# Altium footprint library Oscillator_Pcb.PcbLib: 3 footprints
Each footprint in its own frame and in the unit in brackets; x right, y up, seen from the top. Pads: shape width x height; smd on the part's side, far side on the other; paste and mask are expansions set on the pad; w line width, h text height; cw(c..) or ccw(c..) is an arc to the next point about the centre after c.
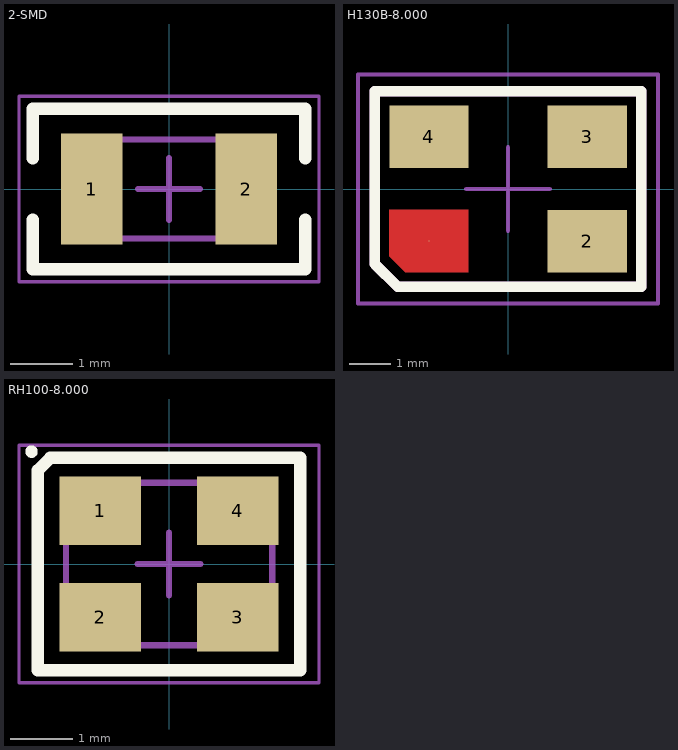
[diagram p0: the footprints below, top view; thin cyan lines are the x and y axes]

## 2-SMD [mm] "Crystal, 2-Leads, Body 3.20x1.50mm, IPC Medium Density"
height 0.9
pads (2):
  rect 1x1.8 smd: 1(-1.25,0) 2(1.25,0)
Top Overlay:
  lines w0.2: -2.2,-0.5 -2.2,-1.3 2.2,-1.3 2.2,-0.5 ; -2.2,0.5 -2.2,1.3 2.2,1.3 2.2,0.5
Mechanical 13:
  lines w0.1: -1.65,-0.8 1.65,-0.8 1.65,0.8 -1.65,0.8 -1.65,-0.8
Mechanical 15:
  lines w0.05: -2.425,-1.5 2.425,-1.5 2.425,1.5 -2.425,1.5 -2.425,-1.5
  lines w0.1: -0.5,0 0.5,0 ; 0,-0.5 0,0.5
3D body "Abracon ABS07.STEP": height 0.9, standoff 0, extent -1.625,-0.775 1.625,0.775

## H130B-8.000 [mm]
pads (4):
  round 0.025 smd: 1(-1.9,-1.25)
  rect 1.9x1.5 smd: 2(1.9,-1.25) 3(1.9,1.25) 4(-1.9,1.25)
Top Layer:
  region: -2.47,-2 -2.85,-1.62 -2.85,-0.5 -0.95,-0.5 -0.95,-2
Top Overlay:
  lines w0.25: -3.2,-1.8 -2.65,-2.35 3.2,-2.35 3.2,2.35 -3.2,2.35 -3.2,-1.8
Mechanical 13:
  lines w0.25: -3.2,-1.8 -2.65,-2.35 3.2,-2.35 3.2,2.35 -3.2,2.35 -3.2,-1.8
Mechanical 15:
  lines w0.1: -1,0 1,0 ; 0,-1 0,1 ; -3.6,-2.75 -3.6,2.75 3.6,2.75 3.6,-2.75 -3.6,-2.75
3D body "User Library-SG_5032_EPSON.step": height 1, standoff 0, extent -2.5,-1.6 2.5,1.6

## RH100-8.000 [mm] "Crystal, 4-Leads, Body 2.50x3.20mm, Pitch 2.20mm, IPC Medium Density"
height 1
pads (4):
  rect 1.3x1.1 smd: 1(-1.1,0.85) 2(-1.1,-0.85) 3(1.1,-0.85) 4(1.1,0.85)
Top Overlay:
  circle w0.1: c-2.2,1.798 r0.05
  lines w0.2: -2.1,-1.702 -2.1,1.498 -1.9,1.698 -1.1,1.698 2.1,1.698 2.1,-1.702 -2.1,-1.702
Mechanical 13:
  lines w0.1: -1.65,-1.3 1.65,-1.3 1.65,1.3 -1.65,1.3 -1.65,-1.3
Mechanical 15:
  lines w0.05: -2.4,-1.9 2.4,-1.9 2.4,1.9 -2.4,1.9 -2.4,-1.9
  lines w0.1: -0.5,0 0.5,0 ; 0,-0.5 0,0.5
3D body "Abracon ASE.STEP": height 1.2, standoff 0, extent -1.625,-1.275 1.625,1.275